# Altium schematic symbol library ic.SchLib: 1 symbol
Pins are listed as number, name and electrical type; pins without a type are passive.

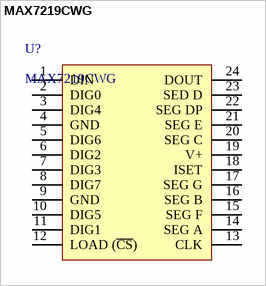
[diagram p0: symbol MAX7219CWG]

## MAX7219CWG
designator U?
IC DRVR 7 SEGMNT 8 DIGIT 24SOIC
footprint SOIC-24 (SOIC, 20-Leads, Body 12.8x7.5mm (max), Pitch 1.27mm, IPC Medium Density)
pins: 1 DIN, 2 DIG0, 3 DIG4, 4 GND, 5 DIG6, 6 DIG2, 7 DIG3, 8 DIG7, 9 GND, 10 DIG5, 11 DIG1, 12 LOAD (~{CS}), 13 CLK, 14 SEG A, 15 SEG F, 16 SEG B, 17 SEG G, 18 ISET, 19 V+, 20 SEG C, 21 SEG E, 22 SEG DP, 23 SED D, 24 DOUT